# Altium footprint library RA-08H.PcbLib: 1 footprints
Each footprint in its own frame and in the unit in brackets; x right, y up, seen from the top. Pads: shape width x height; smd on the part's side, far side on the other; paste and mask are expansions set on the pad; w line width, h text height; cw(c..) or ccw(c..) is an arc to the next point about the centre after c.
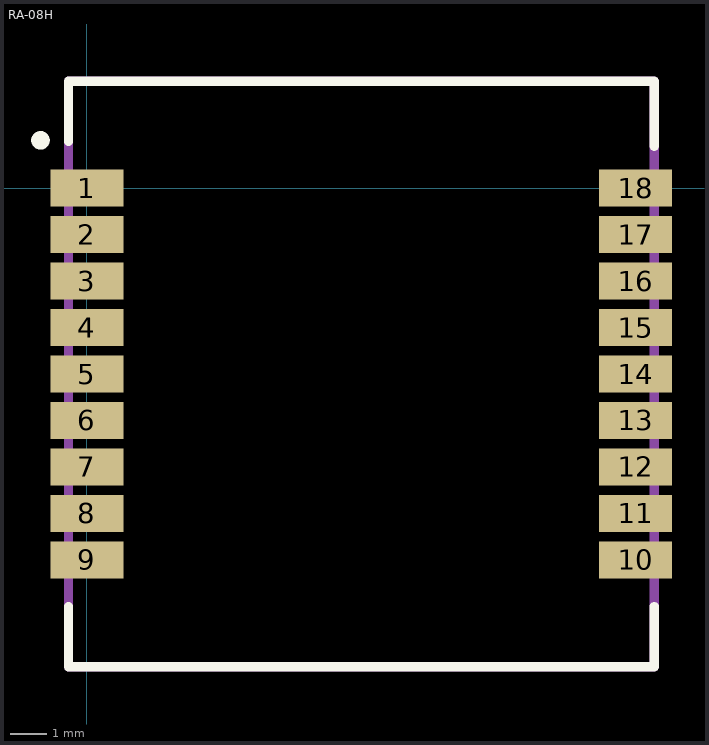
[diagram p0: the footprint, top view; thin cyan lines are the x and y axes]

## RA-08H [mm]
pads (18):
  rect 2x1 smd: 1(0,0) 2(0,-1.27) 3(0,-2.54) 4(0,-3.81) 5(0,-5.08) 6(0,-6.35) 7(0,-7.62) 8(0,-8.89) 9(0,-10.16) 10(14.986,-10.16) 11(14.986,-8.89) 12(14.986,-7.62) 13(14.986,-6.35) 14(14.986,-5.08) 15(14.986,-3.81) 16(14.986,-2.54) 17(14.986,-1.27) 18(14.986,0)
Top Overlay:
  circle w0.254: c-1.271,1.303 r0.127
  lines w0.254: -0.508,-11.43 -0.508,-13.081 15.494,-13.081 15.494,-11.43 ; -0.508,1.27 -0.508,2.921 15.494,2.921 15.494,1.143
TopAssy:
  lines w0.254: -0.508,-13.081 -0.508,2.921 15.494,2.921 15.494,-13.081 -0.508,-13.081
3D body: height 3.2, standoff 0.01, extent -0.508,-13.081 15.494,2.921